# Altium footprint library STS41AAWLBR3.PcbLib: 1 footprints
Each footprint in its own frame and in the unit in brackets; x right, y up, seen from the top. Pads: shape width x height; smd on the part's side, far side on the other; paste and mask are expansions set on the pad; w line width, h text height; cw(c..) or ccw(c..) is an arc to the next point about the centre after c.
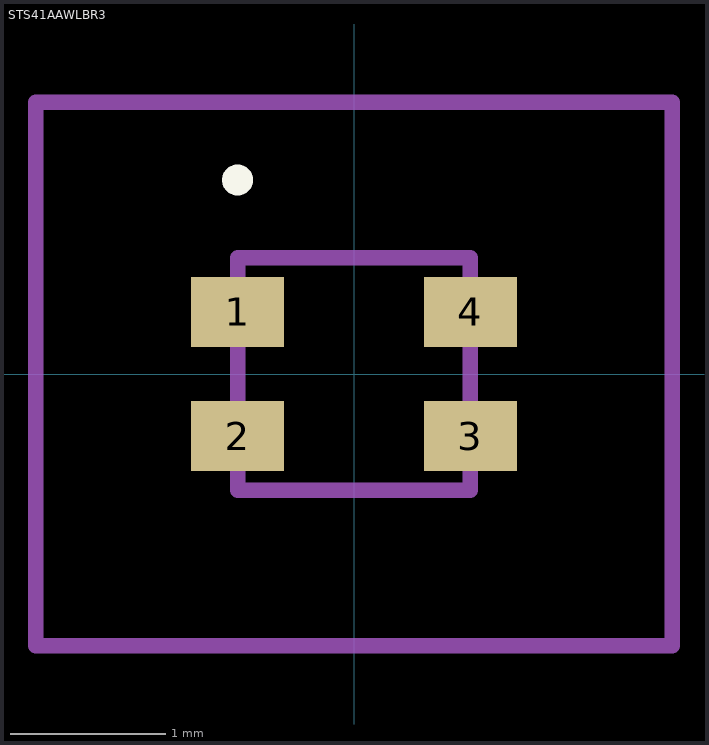
[diagram p0: the footprint, top view; thin cyan lines are the x and y axes]

## STS41AAWLBR3 [mm]
pads (4):
  rect 0.6x0.45 smd: 1(-0.75,0.4) 2(-0.75,-0.4) 3(0.75,-0.4) 4(0.75,0.4)
Top Overlay:
  lines w0.1: -0.75,1.2 -0.75,1.2 ; -0.75,1.2 ccw(c-0.75,1.25) -0.75,1.3 ; -0.75,1.2 cw(c-0.75,1.25) -0.75,1.3 ; -0.75,1.3 -0.75,1.3
Mechanical 15:
  lines w0.1: -0.75,-0.75 0.75,-0.75 0.75,0.75 -0.75,0.75 -0.75,-0.75
Mechanical 20:
  lines w0.1: -2.05,-1.75 2.05,-1.75 2.05,1.75 -2.05,1.75 -2.05,-1.75